# Altium schematic symbol library Connectors.SchLib: 56 symbols
Pins are listed as number, name and electrical type; pins without a type are passive.

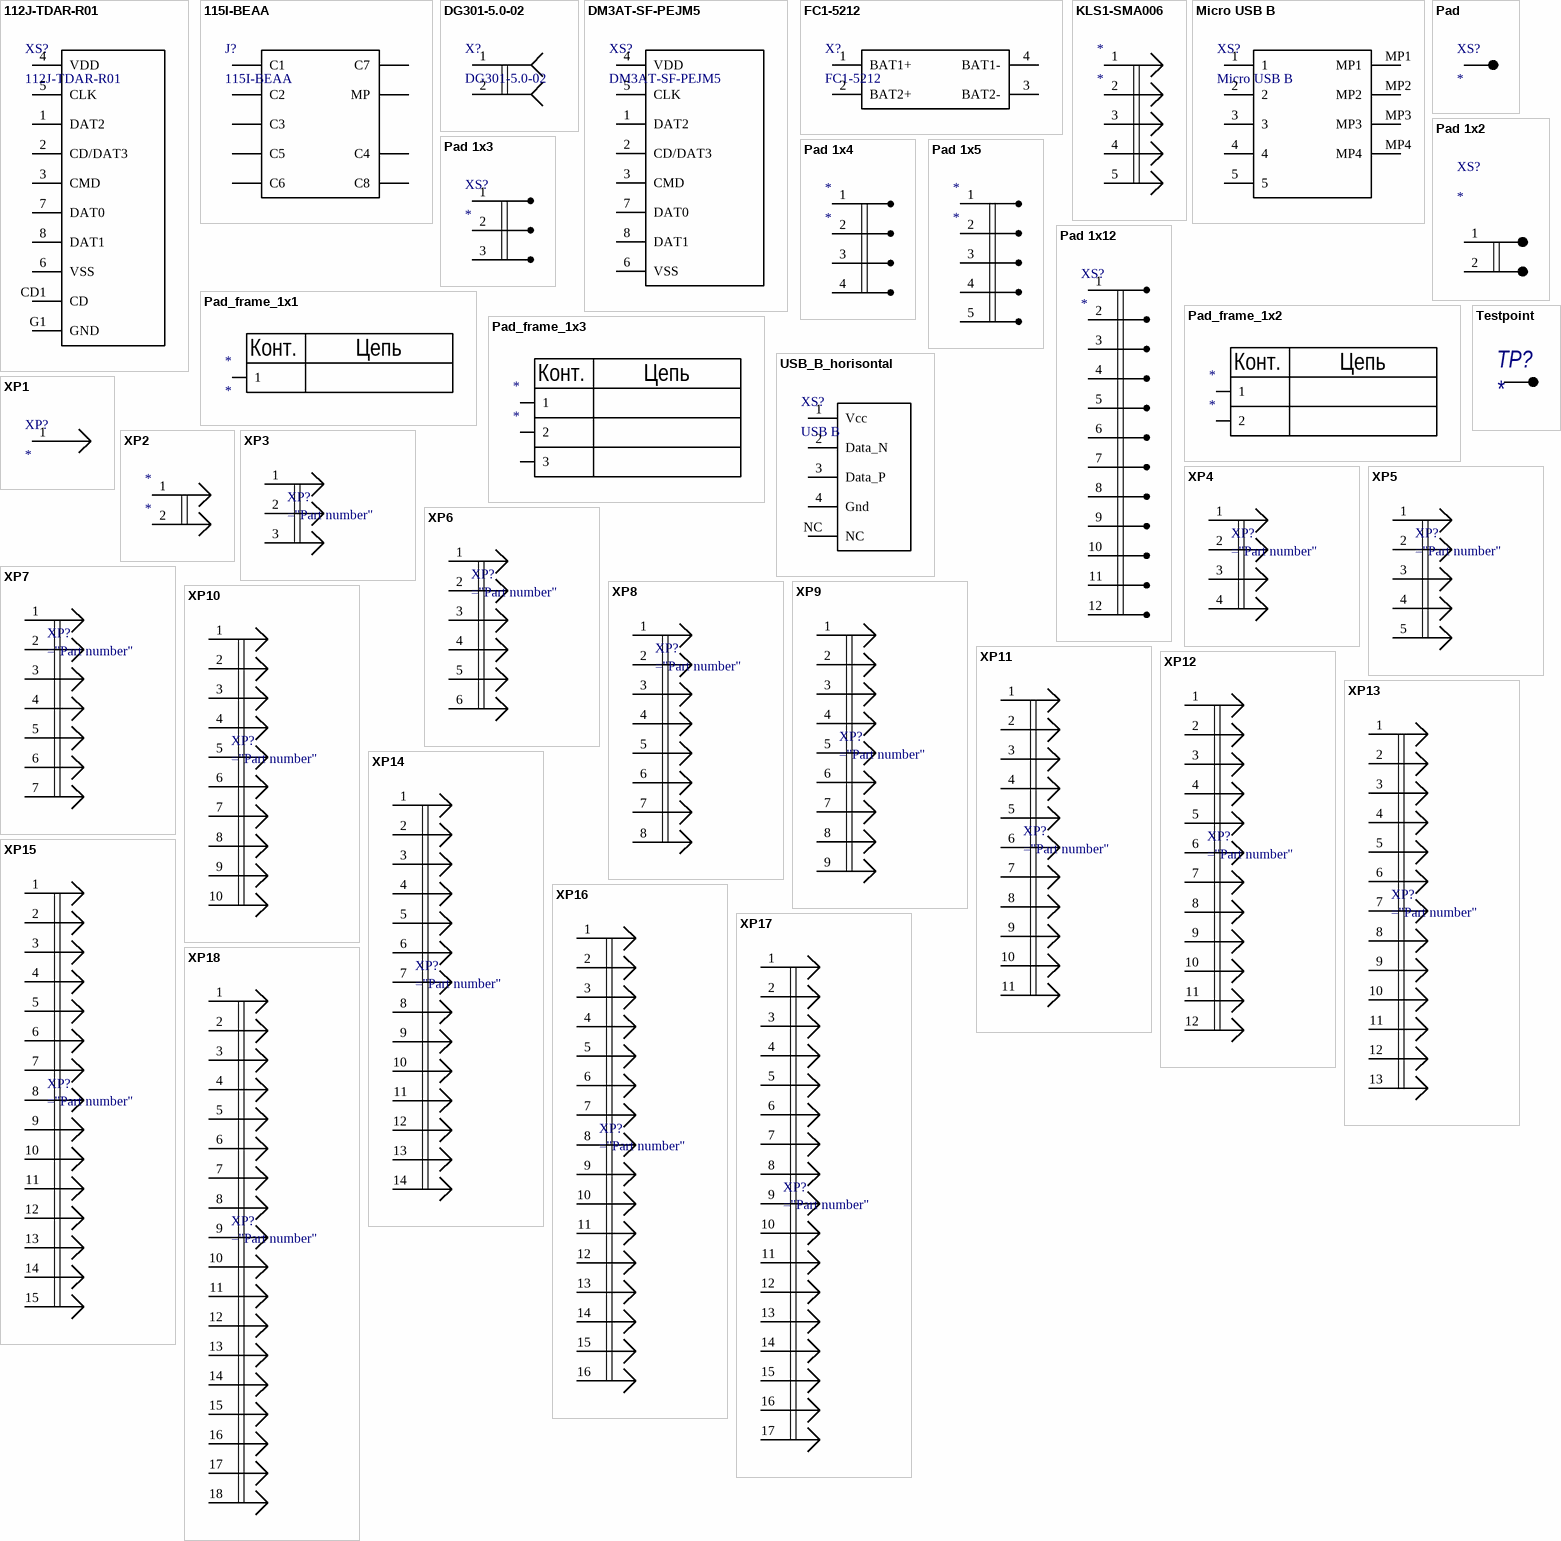
[diagram p0: symbols 112J-TDAR-R01 to XP18]

## 112J-TDAR-R01
designator XS?
https://www.chipdip.ru/product0/8010566035; Type: Держатель карты памяти
footprint 112JTDARR01
pins: 1 DAT2, 2 CD/DAT3, 3 CMD, 4 VDD, 5 CLK, 6 VSS, 7 DAT0, 8 DAT1, CD1 CD, G1 GND

## 115I-BEAA
designator J?
https://www.chipdip.ru/product0/8006830948
footprint Model Name (Footprint not found)
pins: C1, C2, C3, C4, C5, C6, C7, C8, MP

## DG301-5.0-02
designator X?
https://www.chipdip.ru/product/kls2-301-5.00-02p-2s-dg301-5.0-02p-12?from=suggest_product; spec: KLS2-301-5.00-02P-2S (DG301-5.0-02P-12), Клеммник винтовой, 2-контактный, 5мм, прямой
footprint DG301-5.0-02
pins: 1, 2

## DM3AT-SF-PEJM5
designator XS?
Type: Держатель карты памяти
footprint DM3AT-SF-PEJM5
pins: 1 DAT2, 2 CD/DAT3, 3 CMD, 4 VDD, 5 CLK, 6 VSS, 7 DAT0, 8 DAT1

## FC1-5212
designator X?
https://www.chipdip.ru/product/fc1-5212; spec: TBH-18650-2A-P (FC1-5212), Батарейный отсек 2х18650
footprint FC1-5212
pins: 1 BAT1+, 2 BAT2+, 3 BAT2-, 4 BAT1-

## KLS1-SMA006
designator *
pins: 1, 2, 3, 4, 5

## Micro USB B
designator XS?
Parameter 1: Разъём на плату
footprint Micro USB-B
pins: 1, 2, 3, 4, 5, MP1, MP2, MP3, MP4

## Pad
designator XS?
pins: 1

## Pad 1x2
designator XS?
pins: 1, 2

## Pad 1x3
designator XS?
pins: 1, 2, 3

## Pad 1x4
designator *
pins: 1, 2, 3, 4

## Pad 1x5
designator *
pins: 1, 2, 3, 4, 5

## Pad 1x12
designator XS?
pins: 1, 2, 3, 4, 5, 6, 7, 8, 9, 10, 11, 12

## Pad_frame_1x1
designator *
pins: 1
text: Конт.; Цепь

## Pad_frame_1x2
designator *
pins: 1, 2
text: Конт.; Цепь

## Pad_frame_1x3
designator *
pins: 1, 2, 3
text: Конт.; Цепь

## Testpoint
designator TP?  (no BOM)
footprint PAD_2x2MM
pins: 1

## USB_B_horisontal
designator XS?, comment USB B
footprint USB_TypeB_Tyco
pins: 1 Vcc, 2 Data_N, 3 Data_P, 4 Gnd, NC

## XP1
designator XP?
pins: 1

## XP2
designator *
pins: 1, 2

## XP3
designator XP?
pins: 1, 2, 3

## XP4
designator XP?
pins: 1, 2, 3, 4

## XP5
designator XP?
pins: 1, 2, 3, 4, 5

## XP6
designator XP?
pins: 1, 2, 3, 4, 5, 6

## XP7
designator XP?
pins: 1, 2, 3, 4, 5, 6, 7

## XP8
designator XP?
pins: 1, 2, 3, 4, 5, 6, 7, 8
1 alternate drawing of the same symbol

## XP9
designator XP?
pins: 1, 2, 3, 4, 5, 6, 7, 8, 9
1 alternate drawing of the same symbol

## XP10
designator XP?
pins: 1, 2, 3, 4, 5, 6, 7, 8, 9, 10
2 alternate drawings of the same symbol

## XP11
designator XP?
pins: 1, 2, 3, 4, 5, 6, 7, 8, 9, 10, 11

## XP12
designator XP?
pins: 1, 2, 3, 4, 5, 6, 7, 8, 9, 10, 11, 12

## XP13
designator XP?
pins: 1, 2, 3, 4, 5, 6, 7, 8, 9, 10, 11, 12, 13

## XP14
designator XP?
pins: 1, 2, 3, 4, 5, 6, 7, 8, 9, 10, 11, 12, 13, 14
1 alternate drawing of the same symbol

## XP15
designator XP?
pins: 1, 2, 3, 4, 5, 6, 7, 8, 9, 10, 11, 12, 13, 14, 15

## XP16
designator XP?
pins: 1, 2, 3, 4, 5, 6, 7, 8, 9, 10, 11, 12, 13, 14, 15, 16

## XP17
designator XP?
pins: 1, 2, 3, 4, 5, 6, 7, 8, 9, 10, 11, 12, 13, 14, 15, 16, 17

## XP18
designator XP?
pins: 1, 2, 3, 4, 5, 6, 7, 8, 9, 10, 11, 12, 13, 14, 15, 16, 17, 18

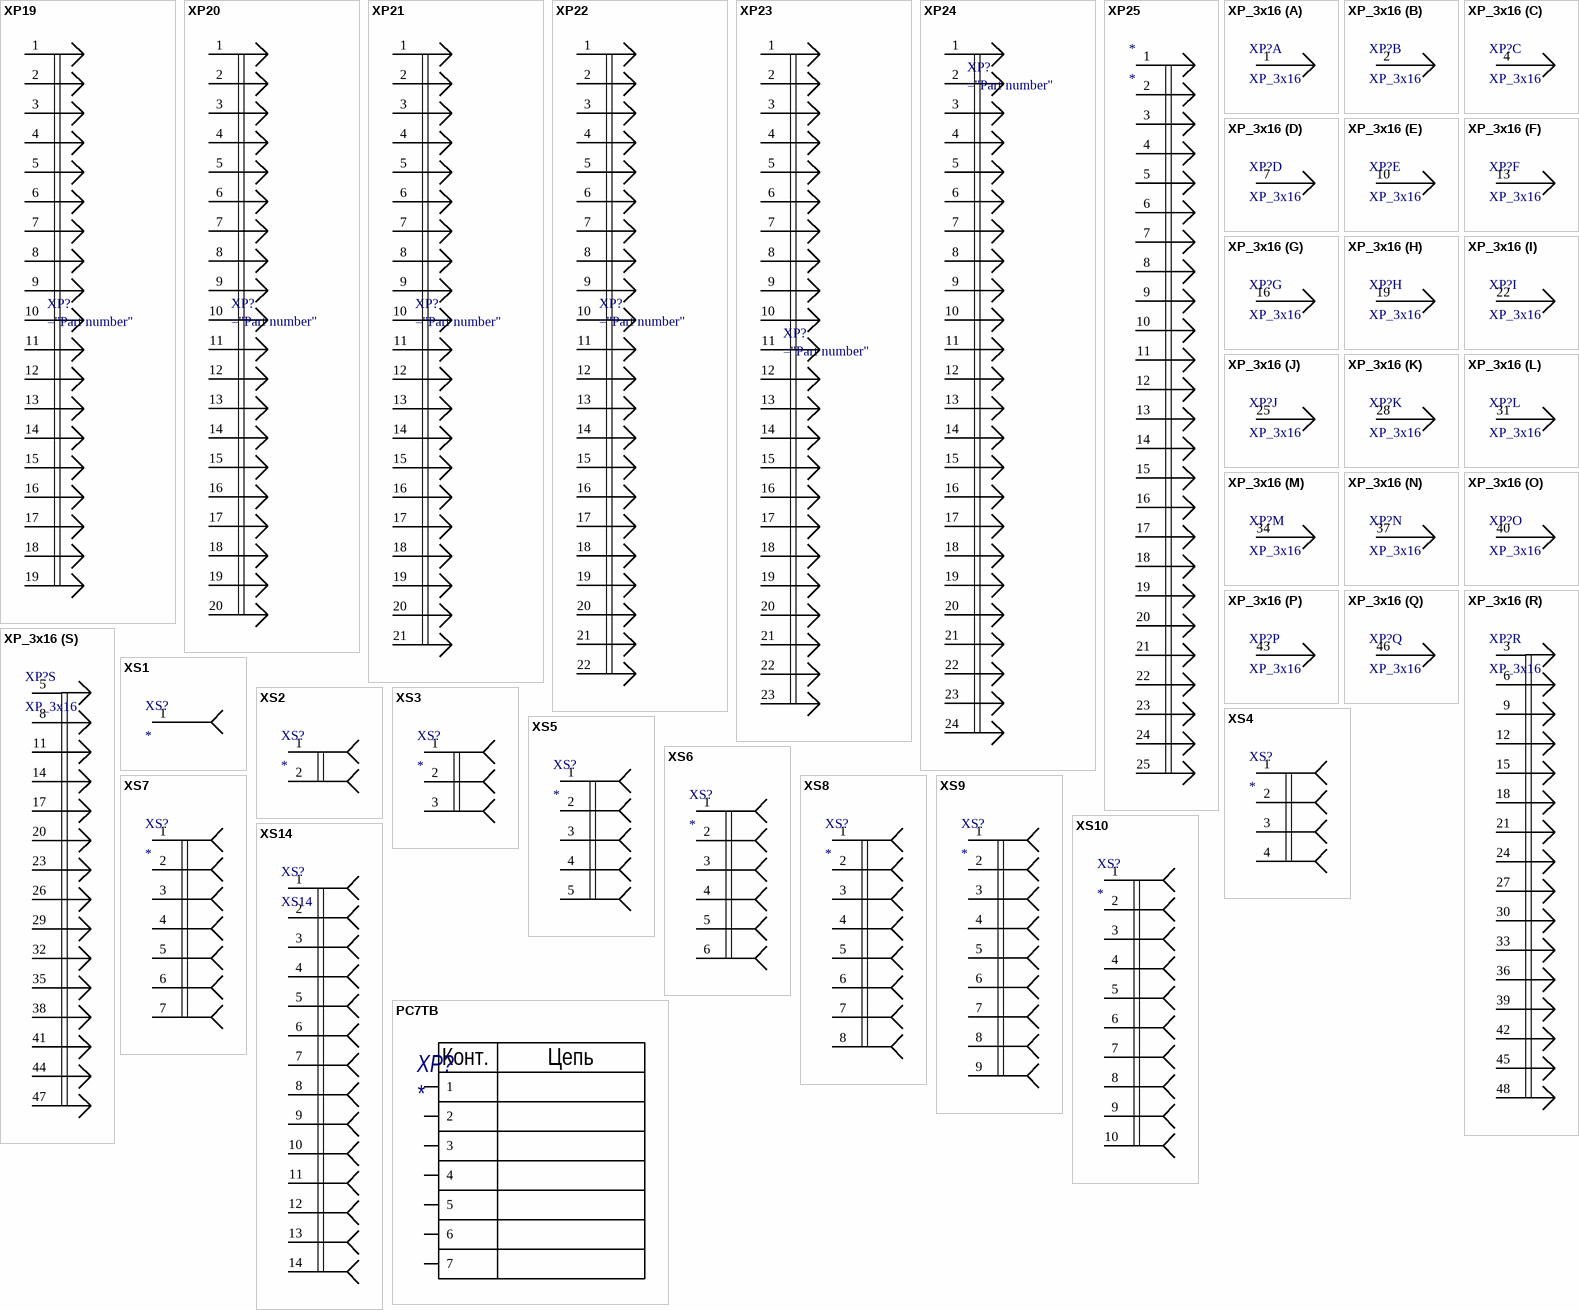
[diagram p1: symbols XP19 to РС7ТВ]

## XP19
designator XP?
pins: 1, 2, 3, 4, 5, 6, 7, 8, 9, 10, 11, 12, 13, 14, 15, 16, 17, 18, 19

## XP20
designator XP?
pins: 1, 2, 3, 4, 5, 6, 7, 8, 9, 10, 11, 12, 13, 14, 15, 16, 17, 18, 19, 20
2 alternate drawings of the same symbol

## XP21
designator XP?
pins: 1, 2, 3, 4, 5, 6, 7, 8, 9, 10, 11, 12, 13, 14, 15, 16, 17, 18, 19, 20, 21

## XP22
designator XP?
pins: 1, 2, 3, 4, 5, 6, 7, 8, 9, 10, 11, 12, 13, 14, 15, 16, 17, 18, 19, 20, 21, 22

## XP23
designator XP?
pins: 1, 2, 3, 4, 5, 6, 7, 8, 9, 10, 11, 12, 13, 14, 15, 16, 17, 18, 19, 20, 21, 22, 23

## XP24
designator XP?
pins: 1, 2, 3, 4, 5, 6, 7, 8, 9, 10, 11, 12, 13, 14, 15, 16, 17, 18, 19, 20, 21, 22, 23, 24

## XP25
designator *
pins: 1, 2, 3, 4, 5, 6, 7, 8, 9, 10, 11, 12, 13, 14, 15, 16, 17, 18, 19, 20, 21, 22, 23, 24, 25

## XP_3x16
designator XP?
footprint conn_3x16_2.54
part A pins: 1
part B pins: 2
part C pins: 4
part D pins: 7
part E pins: 10
part F pins: 13
part G pins: 16
part H pins: 19
part I pins: 22
part J pins: 25
part K pins: 28
part L pins: 31
part M pins: 34
part N pins: 37
part O pins: 40
part P pins: 43
part Q pins: 46
part R pins: 3, 6, 9, 12, 15, 18, 21, 24, 27, 30, 33, 36, 39, 42, 45, 48
part S pins: 5, 8, 11, 14, 17, 20, 23, 26, 29, 32, 35, 38, 41, 44, 47
1 alternate drawing of the same symbol

## XS1
designator XS?
pins: 1

## XS2
designator XS?
pins: 1, 2

## XS3
designator XS?
Type: *
pins: 1, 2, 3

## XS4
designator XS?
pins: 1, 2, 3, 4

## XS5
designator XS?
pins: 1, 2, 3, 4, 5

## XS6
designator XS?
Type: *
pins: 1, 2, 3, 4, 5, 6

## XS7
designator XS?
pins: 1, 2, 3, 4, 5, 6, 7

## XS8
designator XS?
pins: 1, 2, 3, 4, 5, 6, 7, 8

## XS9
designator XS?
pins: 1, 2, 3, 4, 5, 6, 7, 8, 9

## XS10
designator XS?
pins: 1, 2, 3, 4, 5, 6, 7, 8, 9, 10

## XS14
designator XS?
pins: 1, 2, 3, 4, 5, 6, 7, 8, 9, 10, 11, 12, 13, 14

## РС7ТВ
designator XP?
Викла РС7ТВ, 7 контактов, резьбовое соединение; link: https://www.chipdip.ru/product/rs7tv-plug-5
pins: 1, 2, 3, 4, 5, 6, 7
text: Конт.; Цепь